# EAGLE library part HDR_2X20_LUCKFOX_AURA_SHIELD (library GPLIB_CONN)
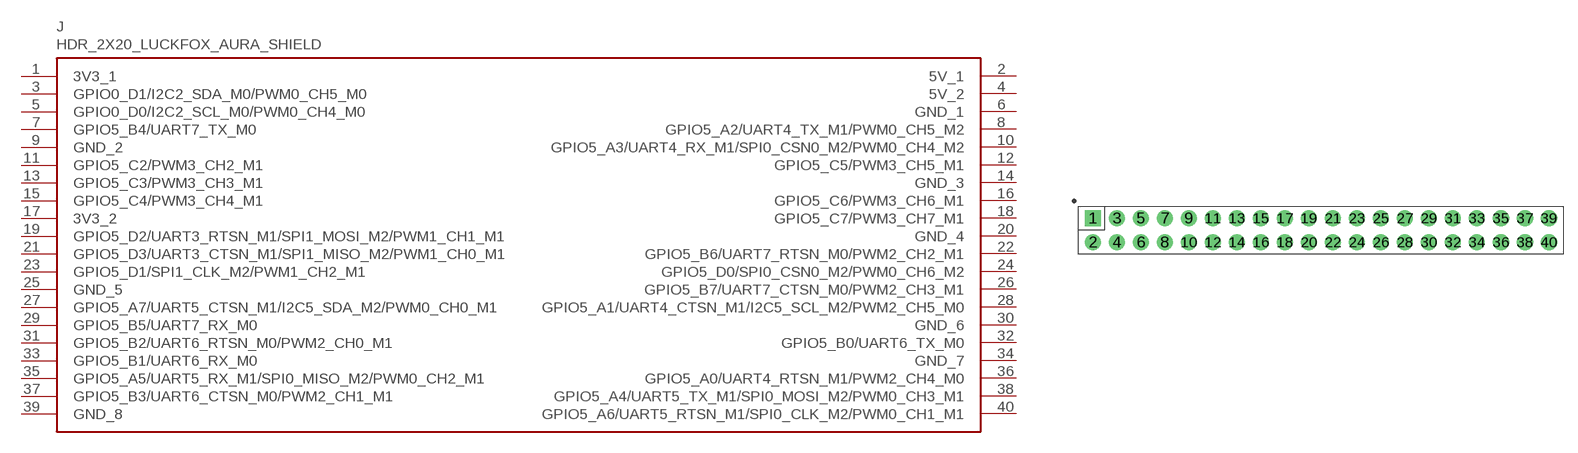
[diagram p57: symbol with the pads of HDR_2X20_2.54MM_TH_ST_FEM_8.50MM_HEIGHT_MIRRORED; footprint HDR_2X20_2.54MM_TH_ST_FEM_8.50MM_HEIGHT_MIRRORED]

Designator prefix J

## HDR_2X20_LUCKFOX_AURA_SHIELD_2.54MM_TH_ST_FEM_8.50MM_HEIGHT  [HDR_2X20_2.54MM_TH_ST_FEM_8.50MM_HEIGHT_MIRRORED]
1  3V3_1  pas
2  5V_1  pas
3  GPIO0_D1/I2C2_SDA_M0/PWM0_CH5_M0  pas
4  5V_2  pas
5  GPIO0_D0/I2C2_SCL_M0/PWM0_CH4_M0  pas
6  GND_1  pas
7  GPIO5_B4/UART7_TX_M0  pas
8  GPIO5_A2/UART4_TX_M1/PWM0_CH5_M2  pas
9  GND_2  pas
10  GPIO5_A3/UART4_RX_M1/SPI0_CSN0_M2/PWM0_CH4_M2  pas
11  GPIO5_C2/PWM3_CH2_M1  pas
12  GPIO5_C5/PWM3_CH5_M1  pas
13  GPIO5_C3/PWM3_CH3_M1  pas
14  GND_3  pas
15  GPIO5_C4/PWM3_CH4_M1  pas
16  GPIO5_C6/PWM3_CH6_M1  pas
17  3V3_2  pas
18  GPIO5_C7/PWM3_CH7_M1  pas
19  GPIO5_D2/UART3_RTSN_M1/SPI1_MOSI_M2/PWM1_CH1_M1  pas
20  GND_4  pas
21  GPIO5_D3/UART3_CTSN_M1/SPI1_MISO_M2/PWM1_CH0_M1  pas
22  GPIO5_B6/UART7_RTSN_M0/PWM2_CH2_M1  pas
23  GPIO5_D1/SPI1_CLK_M2/PWM1_CH2_M1  pas
24  GPIO5_D0/SPI0_CSN0_M2/PWM0_CH6_M2  pas
25  GND_5  pas
26  GPIO5_B7/UART7_CTSN_M0/PWM2_CH3_M1  pas
27  GPIO5_A7/UART5_CTSN_M1/I2C5_SDA_M2/PWM0_CH0_M1  pas
28  GPIO5_A1/UART4_CTSN_M1/I2C5_SCL_M2/PWM2_CH5_M0  pas
29  GPIO5_B5/UART7_RX_M0  pas
30  GND_6  pas
31  GPIO5_B2/UART6_RTSN_M0/PWM2_CH0_M1  pas
32  GPIO5_B0/UART6_TX_M0  pas
33  GPIO5_B1/UART6_RX_M0  pas
34  GND_7  pas
35  GPIO5_A5/UART5_RX_M1/SPI0_MISO_M2/PWM0_CH2_M1  pas
36  GPIO5_A0/UART4_RTSN_M1/PWM2_CH4_M0  pas
37  GPIO5_B3/UART6_CTSN_M0/PWM2_CH1_M1  pas
38  GPIO5_A4/UART5_TX_M1/SPI0_MOSI_M2/PWM0_CH3_M1  pas
39  GND_8  pas
40  GPIO5_A6/UART5_RTSN_M1/SPI0_CLK_M2/PWM0_CH1_M1  pas

## Footprint HDR_2X20_2.54MM_TH_ST_FEM_8.50MM_HEIGHT_MIRRORED (pad centres in mm)
Double-row, 40-pin Receptacle Header (Female) Straight, 2.54 mm (0.10 in) row pitch, 2.54 mm (0.10 in) col pitch
drill 1.105 pad 1.7 square: 1 -24.13,1.27
drill 1.105 pad 1.705: 2 -24.13,-1.27; 3 -21.59,1.27; 4 -21.59,-1.27; 5 -19.05,1.27; 6 -19.05,-1.27; 7 -16.51,1.27; 8 -16.51,-1.27; 9 -13.97,1.27; 10 -13.97,-1.27; 11 -11.43,1.27; 12 -11.43,-1.27; 13 -8.89,1.27; 14 -8.89,-1.27; 15 -6.35,1.27; 16 -6.35,-1.27; 17 -3.81,1.27; 18 -3.81,-1.27; 19 -1.27,1.27; 20 -1.27,-1.27; 21 1.27,1.27; 22 1.27,-1.27; 23 3.81,1.27; 24 3.81,-1.27; 25 6.35,1.27; 26 6.35,-1.27; 27 8.89,1.27; 28 8.89,-1.27; 29 11.43,1.27; 30 11.43,-1.27; 31 13.97,1.27; 32 13.97,-1.27; 33 16.51,1.27; 34 16.51,-1.27; 35 19.05,1.27; 36 19.05,-1.27; 37 21.59,1.27; 38 21.59,-1.27; 39 24.13,1.27; 40 24.13,-1.27